# Altium schematic symbol library Pilot.SchLib: 72 symbols (part 1 of 3)
Pins are listed as number, name and electrical type; pins without a type are passive.

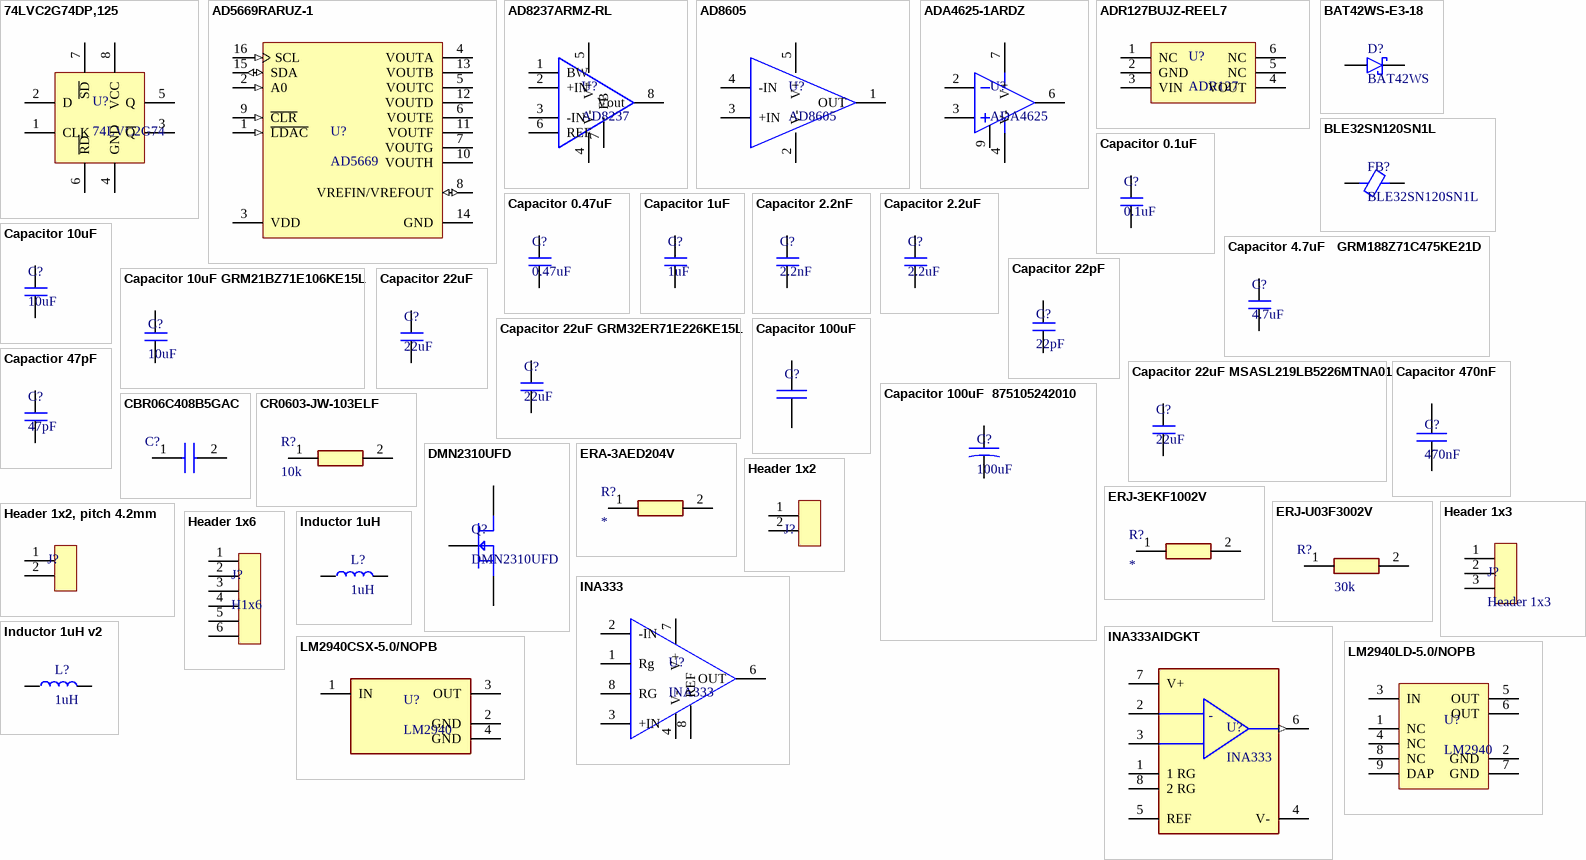
[diagram p0: symbols 74LVC2G74DP,125 to LM2940LD-5.0/NOPB]

## 74LVC2G74DP,125
designator U?, comment 74LVC2G74
Flip-Flop with Set And Reset Single D-Type Positive Edge Trigger 1.65V to 5.5V 8-Pin TSSOP; Manufacturer: Nexperia; Manufacturer Part Number: 74LVC2G74DP,125; Frequency: 200MHz; Output Current: 50mA; Supplier: Mouser; Supplier Part Number: 771-74LVC2G74DP-G; RoHS: Yes; Category: Latches and Flip Flops; Stock: 110790; Pins: 8NUMBER; Packaging: 10Packaging; ComponentLink1URL: https://datasheet.octopart.com/74LVC2G74DP%2C125-Nexperia-datasheet-17482457.pdf?src-supplier=Newark; ComponentLink1Description: https://datasheet.octopart.com/74LVC2G74DP%2C125-Nexperia-datasheet-17482457.pdf?src-supplier=Newark; ComponentLink2URL: https://datasheet.octopart.com/74LVC2G74DP%2C125-NXP-datasheet-8327349.pdf?src-supplier=Future+Electronics; ComponentLink2Description: https://datasheet.octopart.com/74LVC2G74DP%2C125-NXP-datasheet-8327349.pdf?src-supplier=Future+Electronics
footprint TSSOP8 (TSOP, 8-Leads, Body 3.00x3.00mm, Pitch 0.65mm, IPC Medium Density)
pins: 1 CLK, 2 D, 3 ~{Q}, 4 GND, 5 Q, 6 ~{RD}, 7 ~{SD}, 8 VCC

## AD5669RARUZ-1
designator U?, comment AD5669
DAC 8-CH Resistor-String 16-bit 16-Pin TSSOP Tube; Manufacturer: Analog Devices; Manufacturer Part Number: AD5669RARUZ-1; Supplier: Mouser; Supplier Part Number: 584-AD5669RARUZ-1; RoHS: Yes; Category: Digital to Analog Converters (DACs); Stock: 17; Pricing: 1=30.21, 10=22.04, 50=19.5, 100=19.5, 1000=19.5, 10000=19.5 (USD); ComponentLink1URL: https://datasheet.ciiva.com/1151/ad5629r-5669r-1151744.pdf?src-supplier=Newark; ComponentLink1Description: https://datasheet.ciiva.com/1151/ad5629r-5669r-1151744.pdf?src-supplier=Newark; ComponentLink2URL: https://datasheet.ciiva.com/1142/1789980-1142832.pdf?src-supplier=Element14; ComponentLink2Description: https://datasheet.ciiva.com/1142/1789980-1142832.pdf?src-supplier=Element14; ComponentLink3URL: https://datasheet.ciiva.com/1368/ad5629r-5669r-1368153.pdf?src-supplier=Digikey; ComponentLink3Description: https://datasheet.ciiva.com/1368/ad5629r-5669r-1368153.pdf?src-supplier=Digikey; ComponentLink4URL: https://datasheet.ciiva.com/8191/ad5629r-5669r-8191993.pdf?src-supplier=Avnet; ComponentLink4Description: https://datasheet.ciiva.com/8191/ad5629r-5669r-8191993.pdf?src-supplier=Avnet; Supplier 1: Mouser; Supplier Part Number 1: 584-AD5669RARUZ-1
footprint TSSOP16
pins: 1 ~{LDAC} (in) "Pulsing this pin low allows any or all DAC registers to be updated if the input registers have new data. This allows all DAC outputs to simultaneously update. Alternatively, this pin can be tied permanently low.", 2 A0 (in) "Address Input. Sets the least significant bit of the 7-bit slave address.", 3 VDD (power) "Power Supply Input. These parts can be operated from 2.7 V to 5.5 V. Decouple the supply with a 10 uF capacitor in parallel with a 0.1 uF capacitor to GND.", 4 VOUTA (hiz) "Analog Output Voltage from DAC A. The output amplifier has rail-to-rail operation.", 5 VOUTC (hiz) "Analog Output Voltage from DAC C. The output amplifier has rail-to-rail operation.", 6 VOUTE (hiz) "Analog Output Voltage from DAC E. The output amplifier has rail-to-rail operation.", 7 VOUTG (hiz) "Analog Output Voltage from DAC G. The output amplifier has rail-to-rail operation.", 8 VREFIN/VREFOUT (io) "The AD5669R have a common pin for reference input and reference output. When using the internal reference, this is the reference output pin. When using an external reference, this is the reference input pin. The default for (See Datasheet)", 9 ~{CLR} (in) "Asynchronous Clear Input. The C\L\R\ input is falling edge sensitive. When C\L\R\ is low, all L\D\A\C\ pulses are ignored. When C\L\R\ is activated, the input register and the DAC register are updated with the data contained (See Datasheet)", 10 VOUTH (hiz) "Analog Output Voltage from DAC H. The output amplifier has rail-to-rail operation.", 11 VOUTF (hiz) "Analog Output Voltage from DAC F. The output amplifier has rail-to-rail operation.", 12 VOUTD (hiz) "Analog Output Voltage from DAC D. The output amplifier has rail-to-rail operation.", 13 VOUTB (hiz) "Analog Output Voltage from DAC B. The output amplifier has rail-to-rail operation.", 14 GND (power) "Ground Reference Point for All Circuitry on the Parts", 15 SDA (io) "Serial Data Input. This is used in conjunction with the SCL line to clock data into or out of the 32-bit input shift register. It is a bidirectional, open-drain data line that should be pulled to the supply with an external (See Datasheet)", 16 SCL (in) "Serial Clock Line. This is used in conjunction with the SDA line to clock data into or out of the 32-bit input shift register."

## AD8237ARMZ-RL
designator U?, comment AD8237
Micropower, Zero Drift, True Rail-to-Rail Instrumentation Amplifier; Manufacturer: Analog Devices; Manufacturer Part Number: AD8237ARMZ-RL; Common Mode Rejection Ratio: 106dB; Bandwidth: 20kHz; Number of Channels: 1; Max Supply Voltage: 5.5V; Min Supply Voltage: 1.8V; Slew Rate: 0.15V/µs; -3db Bandwidth: 200kHz; Input Offset Voltage (Vos): 75uV; Operating Supply Current: 115uA; Input Bias Current: 250pA; Voltage Gain: 60dB; Output Current per Channel: 4mA; Supplier: Mouser; Supplier Part Number: 584-AD8237ARMZ-R; RoHS: Yes; Category: Amplifiers - Op Amps, Buffer, Instrumentation; Stock: 3637; Mounting Technology: Surface Mount; Case/Package: MSOP; Pins: 8; Contact Plating: Tin,Matte; Min Operating Temperature: -40°C; Max Operating Temperature: 125°C; Packaging: Tape and Reel; Package Quantity: 3000; Number of Circuits: 1; Number of Elements: 1; Supply Current: 115uA; Series: -; Lead Free: Contains Lead; RoHS Compliant: Yes; ComponentLink1URL: https://datasheet.ciiva.com/8582/ad8237-8582304.pdf?src-supplier=Avnet; ComponentLink1Description: https://datasheet.ciiva.com/8582/ad8237-8582304.pdf?src-supplier=Avnet; ComponentLink2URL: https://datasheet.ciiva.com/16374/ad8237-249057-16374304.pdf?src-supplier=Mouser; ComponentLink2Description: https://datasheet.ciiva.com/16374/ad8237-249057-16374304.pdf?src-supplier=Mouser
pins: 1 BW, 2 +IN, 3 -IN, 4 V-, 5 V+, 6 REF, 7 FB, 8 Vout

## AD8605
designator U?
pins: 1 OUT, 2 V-, 3 +IN, 4 -IN, 5 V+

## ADA4625-1ARDZ
designator U?, comment ADA4625
Op Amp Single Low Noise Amplifier R-R O/P ±18V/36V 8-Pin SOIC N EP Tube; Manufacturer: Analog Devices; Manufacturer Part Number: ADA4625-1ARDZ; Supplier: Mouser; Supplier Part Number: 584-ADA4625-1ARDZ; RoHS: Yes; Category: Amplifiers - Op Amps, Buffer, Instrumentation; Stock: 890; Pricing: 1=12.22, 10=8.4, 50=6.3, 100=5.98, 1000=5.98, 10000=5.98 (USD); ComponentLink1URL: https://datasheet.octopart.com/ADA4625-1ARDZ-Analog-Devices-datasheet-155467704.pdf?src-supplier=Element14; ComponentLink1Description: https://datasheet.octopart.com/ADA4625-1ARDZ-Analog-Devices-datasheet-155467704.pdf?src-supplier=Element14; ComponentLink2URL: https://www.analog.com/media/en/technical-documentation/data-sheets/ADA4625-1.pdf?src-supplier=Digikey; ComponentLink2Description: https://www.analog.com/media/en/technical-documentation/data-sheets/ADA4625-1.pdf?src-supplier=Digikey; ComponentLink3URL: https://datasheet.octopart.com/ADA4625-1ARDZ-Analog-Devices-datasheet-142523027.pdf?src-supplier=Arrow.cn; ComponentLink3Description: https://datasheet.octopart.com/ADA4625-1ARDZ-Analog-Devices-datasheet-142523027.pdf?src-supplier=Arrow.cn; Supplier 1: Mouser; Supplier Part Number 1: 584-ADA4625-1ARDZ
footprint SOIC8 (SOIC, 8-Leads, Body 4.90x3.93mm, Pitch 1.27mm, Thermal Pad 2.39x2.39mm, IPC Medium Density)
pins: 2 IN-, 3 IN+, 4 V- (power), 6 OUT, 7 V+ (power), 9

## ADR127BUJZ-REEL7
designator U?, comment ADR127
Precision, Micropower LD0 1.25 VOUT Voltage Reference in TSOT; Manufacturer: Analog Devices; Manufacturer Part Number: ADR127BUJZ-REEL7; Supplier: Mouser; Supplier Part Number: 584-ADR127BUJZ-R7; RoHS: Yes; Category: Voltage References; Stock: 1572; ComponentLink1URL: https://datasheet.ciiva.com/22666/705367-22666165.pdf?src-supplier=Element14; ComponentLink1Description: https://datasheet.ciiva.com/22666/705367-22666165.pdf?src-supplier=Element14; ComponentLink2URL: https://datasheet.ciiva.com/3236/adr121-125-127-3236921.pdf?src-supplier=Avnet; ComponentLink2Description: https://datasheet.ciiva.com/3236/adr121-125-127-3236921.pdf?src-supplier=Avnet; ComponentLink3URL: https://datasheet.ciiva.com/2005/adr121-125-127-2005786.pdf?src-supplier=Digikey; ComponentLink3Description: https://datasheet.ciiva.com/2005/adr121-125-127-2005786.pdf?src-supplier=Digikey; ComponentLink4URL: https://datasheet.ciiva.com/2005/adr121-125-127-2005788.pdf?src-supplier=Digikey; ComponentLink4Description: https://datasheet.ciiva.com/2005/adr121-125-127-2005788.pdf?src-supplier=Digikey; ComponentLink5URL: https://datasheet.ciiva.com/2005/adr121-125-127-2005787.pdf?src-supplier=Digikey; ComponentLink5Description: https://datasheet.ciiva.com/2005/adr121-125-127-2005787.pdf?src-supplier=Digikey; Supplier 1: Mouser; Supplier Part Number 1: 584-ADR127AUJZ-R7
footprint TSOT6 (TSOP, 6-Leads, Body 2.90x1.60mm, Pitch 0.95mm, IPC Medium Density)
pins: 1 NC, 2 GND, 3 VIN, 4 VOUT, 5 NC, 6 NC

## BAT42WS-E3-18
designator D?, comment BAT42WS
Rectifier Diode, Schottky, 1 Phase, 1 Element, 0.2A, 30V V(RRM), Silicon; Manufacturer: Vishay; Manufacturer Part Number: BAT42WS-E3-18; Max Power Dissipation: 150mW; Forward Voltage: 650mV; Forward Current: 200mA; Max Forward Surge Current (Ifsm): 4A; Max Reverse Current: 100uA; Reverse Recovery Time: 5ns; Supplier: Mouser; Supplier Part Number: 78-BAT42WS-E3-18; RoHS: Yes; Category: Rectifier Diodes; Stock: 24379; Pricing: 1=0.3, 10=0.193, 50=0.193, 100=0.119, 1000=0.073, 10000=0.045 (USD); Mounting Technology: Surface Mount; Case/Package: SOD-323-2; Weight: 0.000152oz; Contact Plating: Tin; Min Operating Temperature: -55°C; Max Operating Temperature: 125°C; Packaging: Tape and Reel; Package Quantity: 10000; Max Repetitive Reverse Voltage (Vrrm): 30V; Average Rectified Current: 200mA; Peak Non-Repetitive Surge Current: 4A; Max Reverse Voltage (DC): 30V; Series: Automotive, AEC-Q101; RoHS Compliant: Yes; ComponentLink1URL: http://www.mouser.com/ds/2/427/bat42wsv-57684.pdf?src-supplier=Mouser; ComponentLink1Description: http://www.mouser.com/ds/2/427/bat42wsv-57684.pdf?src-supplier=Mouser; ComponentLink2URL: http://www.vishay.com/docs/81813/bat42wsv.pdf?src-supplier=Avnet; ComponentLink2Description: http://www.vishay.com/docs/81813/bat42wsv.pdf?src-supplier=Avnet; ComponentLink3URL: http://www.vishay.com/docs/81813/bat42wsv.pdf?src-supplier=Digikey; ComponentLink3Description: http://www.vishay.com/docs/81813/bat42wsv.pdf?src-supplier=Digikey; ComponentLink4URL: http://www.vishay.com/docs/81813/bat42ws.pdf?src-supplier=Digikey; ComponentLink4Description: http://www.vishay.com/docs/81813/bat42ws.pdf?src-supplier=Digikey; Supplier 1: Mouser; Supplier Part Number 1: 78-BAT42WS-E3-18
footprint SOD-123 (Molded Diode, 2-Leads, Body 2.70x1.55mm, IPC Medium Density)
pins: 1, 2

## BLE32SN120SN1L
designator FB?
Ferrite Bead, 12 Ohm, 20A, 1210 Rohs Compliant: Yes; Manufacturer: Murata; Supplier: Mouser; Supplier Part Number: 81-BLE32SN120SN1L; Manufacturer Part Number: BLE32SN120SN1L; RoHS: No; Stock: 1671; Pricing: 1=1.02, 10=0.715, 50=0.546, 100=0.482, 1000=0.353, 10000=0.32 (USD); Supplier 1: Farnell; Supplier Part Number 1: 4076388
footprint FER1206
pins: 1, 2

## Capacitor 0.1uF
designator C?, comment 0.1uF
50V 100nF X5R 卤10% 0603 Multilayer Ceramic Capacitors MLCC - SMD/SMT ROHS; Manufacturer: TDK; Manufacturer Part Number: C1608X5R1H104K080AA; Material: 4241ConductorMaterial; Tolerance: 10%; Supplier: Mouser; Supplier Part Number: 810-C1608X5R1H104K; RoHS: Yes; Category: Ceramic Capacitors; Stock: 239770; Pricing: 1=0.1, 10=0.051, 50=0.051, 100=0.031, 1000=0.021, 10000=0.012 (USD); Mounting Technology: Surface Mount; Case/Package: 0603; Pins: 2NUMBER; Case Code (Metric): 1608; Case Code (Imperial): 0603; Weight: 7.1E-05oz; Dielectric Material: 4241ConductorMaterial; Min Operating Temperature: -55°C; Max Operating Temperature: 85°C; Value: 100nF; Voltage Rating: 50V; Package Quantity: 1; Packaging: Tape and Reel; Voltage Rating (DC): 50V; Dielectric: X5R; Termination: SMD/SMT; Series: C; Construction: Flat; Length: 1.6mm; Width: 0.031inch; Height: 0.8mm; Thickness: 0.035inch; Depth: 0.8mm; Radiation Hardening: No; Reach SVHC Compliant: No; RoHS Compliant: Yes; Lead Free: 5697LeadFree; ComponentLink1URL: https://datasheet.ciiva.com/24219/mlcc-commercial-general-en-24219452.pdf?src-supplier=Mouser; ComponentLink1Description: https://datasheet.ciiva.com/24219/mlcc-commercial-general-en-24219452.pdf?src-supplier=Mouser; ComponentLink2URL: https://datasheet.ciiva.com/7975/1796654-7975081.pdf?src-supplier=Element14; ComponentLink2Description: https://datasheet.ciiva.com/7975/1796654-7975081.pdf?src-supplier=Element14; ComponentLink3URL: https://datasheet.ciiva.com/22694/1796654-22694121.pdf?src-supplier=Element14; ComponentLink3Description: https://datasheet.ciiva.com/22694/1796654-22694121.pdf?src-supplier=Element14; ComponentLink4URL: https://datasheet.ciiva.com/28577/1735394-28577228.pdf?src-supplier=Element14; ComponentLink4Description: https://datasheet.ciiva.com/28577/1735394-28577228.pdf?src-supplier=Element14; ComponentLink5URL: https://datasheet.ciiva.com/6275/tdkmlcccaprange-6275223.pdf?src-supplier=Digikey; ComponentLink5Description: https://datasheet.ciiva.com/6275/tdkmlcccaprange-6275223.pdf?src-supplier=Digikey; Supplier 1: Mouser; Supplier Part Number 1: 810-C1608X5R1H104K
footprint CAP0603 (Chip Capacitor, 2-Leads, Body 1.60x0.80mm, IPC Medium Density)
pins: 1, 2

## Capacitor 0.47uF
designator C?, comment 0.47uF
Cap Ceramic 0.47uF 25V X7R 10% Pad SMD 0603 Soft Termination 125C T/RC1608X7R1E474K080AE; Manufacturer: TDK; Supplier: Mouser; Supplier Part Number: 810-C1608X7R1E474KAE; Manufacturer Part Number: C1608X7R1E474K080AE; RoHS: Yes; Category: Ceramic Capacitors; Stock: 4650; Pricing: 1=0.19, 10=0.078, 50=0.078, 100=0.06, 1000=0.047, 10000=0.032 (USD); ComponentLink1URL: https://product.tdk.com/info/en/catalog/datasheets/mlcc_commercial_soft_en.pdf?ref_disty=digikey&src-supplier=Digikey; ComponentLink1Description: https://product.tdk.com/info/en/catalog/datasheets/mlcc_commercial_soft_en.pdf?ref_disty=digikey&src-supplier=Digikey; ComponentLink2URL: https://product.tdk.com/info/en/catalog/spec/mlccspec_commercial_soft_en.pdf?src-supplier=Digikey; ComponentLink2Description: https://product.tdk.com/info/en/catalog/spec/mlccspec_commercial_soft_en.pdf?src-supplier=Digikey; ComponentLink3URL: https://product.tdk.com/info/en/catalog/datasheets/mlcc_commercial_soft_en.pdf?src-supplier=Digikey; ComponentLink3Description: https://product.tdk.com/info/en/catalog/datasheets/mlcc_commercial_soft_en.pdf?src-supplier=Digikey; Supplier 1: Mouser; Supplier Part Number 1: 810-C1608X7R1E474KAE
footprint CAP0603 (Chip Capacitor, 2-Leads, Body 1.60x0.80mm, IPC Medium Density)
pins: 1, 2

## Capacitor 1uF
designator C?, comment 1uF
C Series 0402 0.1 uF 50 V ±10 % Tolerance X7R SMT Multilayer Ceramic Capacitor; Manufacturer: TDK; Manufacturer Part Number: C1005X7R1H104K050BB; Dielectric Material: 4241ConductorMaterial; Value: 100nF; Voltage Rating: 50V; Tolerance: 10%; Supplier: Mouser; Supplier Part Number: 810-C1005X7R1H104K; RoHS: Yes; Category: Ceramic Capacitors; Stock: 2219613; Pricing: 1=0.1, 10=0.028, 50=0.028, 100=0.024, 1000=0.014, 10000=0.011 (USD); Mounting Technology: Surface Mount; Case/Package: 0402; Pins: 2NUMBER; Case Code (Imperial): 0402; Case Code (Metric): 1005; Material: 4241ConductorMaterial; Min Operating Temperature: -55°C; Max Operating Temperature: 125°C; Package Quantity: 1; Packaging: Tape and Reel; Dielectric: X7R; Voltage: 50V; Series: C; Construction: Flat; Length: 1mm; Width: 0.02inch; Height: 0.5mm; Thickness: 0.022inch; Depth: 0.5mm; Radiation Hardening: No; RoHS Compliant: Yes; Reach SVHC Compliant: Unknown; Lead Free: 5697LeadFree; ComponentLink1URL: https://datasheet.ciiva.com/26285/2983c1005x7r1h104k050bb-26285417.pdf?src-supplier=Onlinecomponents.com; ComponentLink1Description: https://datasheet.ciiva.com/26285/2983c1005x7r1h104k050bb-26285417.pdf?src-supplier=Onlinecomponents.com; ComponentLink2URL: https://datasheet.ciiva.com/16427/c1005x7r1h104k050bb-16427685.pdf?src-supplier=Future+Electronics; ComponentLink2Description: https://datasheet.ciiva.com/16427/c1005x7r1h104k050bb-16427685.pdf?src-supplier=Future+Electronics; ComponentLink3URL: https://datasheet.ciiva.com/22725/1913358-22725482.pdf?src-supplier=Element14; ComponentLink3Description: https://datasheet.ciiva.com/22725/1913358-22725482.pdf?src-supplier=Element14; ComponentLink4URL: https://datasheet.ciiva.com/22725/1913358-22725480.pdf?src-supplier=Element14; ComponentLink4Description: https://datasheet.ciiva.com/22725/1913358-22725480.pdf?src-supplier=Element14; ComponentLink5URL: https://datasheet.ciiva.com/6292/tdkmlcccaprange-6292410.pdf?src-supplier=Digikey; ComponentLink5Description: https://datasheet.ciiva.com/6292/tdkmlcccaprange-6292410.pdf?src-supplier=Digikey; ComponentLink6URL: https://datasheet.ciiva.com/23802/1796654-23802749.pdf?src-supplier=Newark; ComponentLink6Description: https://datasheet.ciiva.com/23802/1796654-23802749.pdf?src-supplier=Newark; ComponentLink7URL: https://datasheet.ciiva.com/6292/tdkmlcccaprange-6292415.pdf?src-supplier=Digikey; ComponentLink7Description: https://datasheet.ciiva.com/6292/tdkmlcccaprange-6292415.pdf?src-supplier=Digikey; ComponentLink8URL: https://datasheet.ciiva.com/48671/e412-c-48671294.pdf?src-supplier=Avnet; ComponentLink8Description: https://datasheet.ciiva.com/48671/e412-c-48671294.pdf?src-supplier=Avnet; Supplier 1: Mouser; Supplier Part Number 1: 810-C1005X7R1H104K
footprint CAP0402 (Chip Capacitor, 2-Leads, Body 1.00x0.50mm, IPC Medium Density)
pins: 1, 2

## Capacitor 2.2nF
designator C?, comment 2.2nF
Multilayer Ceramic Capacitor, 2200 pF, 25 V, ± 10%, X7R, 0402 [1005 Metric]; Manufacturer: Murata; Manufacturer Part Number: GRM155R71E222KA01D; Material: 4241ConductorMaterial; Voltage Rating: 25V; Supplier: Mouser; Supplier Part Number: 81-GRM155R71E222KA1D; RoHS: Yes; Category: Ceramic Capacitors; Stock: 158457; Pricing: 1=0.1, 10=0.013, 50=0.013, 100=0.009, 1000=0.006, 10000=0.004 (USD); Mounting Technology: Surface Mount; Case/Package: 0402; Pins: 2NUMBER; Case Code (Metric): 1005; Case Code (Imperial): 0402; Min Operating Temperature: -55°C; Max Operating Temperature: 125°C; Packaging: Tape and Reel; Value: 2.2nF; Tolerance: 10%; Package Quantity: 1; Voltage Rating (DC): 25V; Dielectric: X7R; Termination: SMD/SMT; Voltage: 25V; Series: GRM; Construction: Flat; Length: 1mm; Width: 0.02inch; Height: 0.5mm; Thickness: 0.022inch; Depth: 0.5mm; Radiation Hardening: No; Reach SVHC Compliant: No; Lead Free: Lead Free; RoHS Compliant: Yes; ComponentLink1URL: https://datasheet.ciiva.com/18184/getdatasheetpartid-476555-18184699.pdf?src-supplier=Verical; ComponentLink1Description: https://datasheet.ciiva.com/18184/getdatasheetpartid-476555-18184699.pdf?src-supplier=Verical; ComponentLink2URL: https://datasheet.ciiva.com/129/partnumbering-e-01-129988.pdf?src-supplier=Digikey; ComponentLink2Description: https://datasheet.ciiva.com/129/partnumbering-e-01-129988.pdf?src-supplier=Digikey; ComponentLink3URL: https://datasheet.ciiva.com/129/partnumbering-e-01-129987.pdf?src-supplier=Digikey; ComponentLink3Description: https://datasheet.ciiva.com/129/partnumbering-e-01-129987.pdf?src-supplier=Digikey; ComponentLink4URL: https://datasheet.ciiva.com/129/partnumbering-e-01-129989.pdf?src-supplier=Digikey; ComponentLink4Description: https://datasheet.ciiva.com/129/partnumbering-e-01-129989.pdf?src-supplier=Digikey; ComponentLink5URL: https://datasheet.ciiva.com/16396/product-16396812.pdf?src-supplier=Future+Electronics; ComponentLink5Description: https://datasheet.ciiva.com/16396/product-16396812.pdf?src-supplier=Future+Electronics; Supplier 1: Mouser; Supplier Part Number 1: 81-GRM155R71E222KA1D
footprint CAP0402 (Chip Capacitor, 2-Leads, Body 1.00x0.50mm, IPC Medium Density)
pins: 1, 2

## Capacitor 2.2uF
designator C?, comment 2.2uF
Multilayer Ceramic Capacitors (High dielectric type), 16V, 2.2 uF, ± 20 %, 0603, X5R, RoHS; Manufacturer: Taiyo Yuden; Manufacturer Part Number: EMK107BJ225MA-T; Supplier 1: Mouser; Supplier Part Number 1: 963-EMK107BJ225MA-T; Supplier: Mouser; Supplier Part Number: 963-EMK107BJ225MA-T; RoHS: Yes; Category: Ceramic Capacitors; Stock: 26652; Pricing: 1=0.1, 10=0.039, 50=0.039, 100=0.033, 1000=0.022, 10000=0.014 (USD); ComponentLink1URL: http://ds.yuden.co.jp/TYCOMPAS/ut/detail.do?productNo=EMK107BJ225MA-T&fileName=EMK107BJ225MA-T_SS&mode=specSheetDownload&src-supplier=Digikey; ComponentLink1Description: http://ds.yuden.co.jp/TYCOMPAS/ut/detail.do?productNo=EMK107BJ225MA-T&fileName=EMK107BJ225MA-T_SS&mode=specSheetDownload&src-supplier=Digikey; ComponentLink2URL: http://documents.rs-components.com/techlib://itc_doclist_GB.htm?stockno=7583057&src-supplier=Rs; ComponentLink2Description: http://documents.rs-components.com/techlib://itc_doclist_GB.htm?stockno=7583057&src-supplier=Rs; ComponentLink3URL: https://ds.yuden.co.jp/TYCOMPAS/ut/detail?pn=EMK107BJ225MA-T &amp;u=M&src-supplier=Digikey; ComponentLink3Description: https://ds.yuden.co.jp/TYCOMPAS/ut/detail?pn=EMK107BJ225MA-T &amp;u=M&src-supplier=Digikey; ComponentLink4URL: https://datasheet.octopart.com/EMK107BJ225MA-T-Taiyo-Yuden-datasheet-140424376.pdf?src-supplier=Master+Electronics; ComponentLink4Description: https://datasheet.octopart.com/EMK107BJ225MA-T-Taiyo-Yuden-datasheet-140424376.pdf?src-supplier=Master+Electronics
footprint CAP0603 (Chip Capacitor, 2-Leads, Body 1.60x0.80mm, IPC Medium Density)
pins: 1, 2

## Capacitor 4.7uF   GRM188Z71C475KE21D
designator C?, comment 4.7uF
16V 4.7uF X7R ±10% 0603 Multilayer Ceramic Capacitors MLCC - SMD/SMT ROHS; Manufacturer: Murata; Manufacturer Part Number: GRM188Z71C475KE21D; Material: 4241ConductorMaterial; Supplier: Mouser; Supplier Part Number: 81-GRM188Z71C475KE1D; RoHS: Yes; Category: Ceramic Capacitors; Stock: 154481; Pricing: 1=0.24, 10=0.099, 50=0.099, 100=0.075, 1000=0.061, 10000=0.044 (USD); Case/Package: 345Case; Min Operating Temperature: -55°C; Max Operating Temperature: 125°C; Value: 4.7uF; Tolerance: 10%; Voltage Rating: 16V; Length: 1.6mm; Width: 800um; Height: 1mm; Thickness: 800um; RoHS Compliant: Yes; Supplier 1: Mouser; Supplier Part Number 1: 81-GRM188Z71C475KE1D
footprint CAP0603 (Chip Capacitor, 2-Leads, Body 1.60x0.80mm, IPC Medium Density)
pins: 1, 2

## Capacitor 10uF
designator C?, comment 10uF
SMD Multilayer Ceramic Capacitor, 10 ï¿½F, 25 V, 0805 [2012 Metric], ï¿½ 10%, X7S; Manufacturer: TDK; Manufacturer Part Number: C2012X7S1E106K125AC; Material: 4241ConductorMaterial; Dielectric: 1542DielectricType; Voltage Rating: 25V; Supplier: Mouser; Supplier Part Number: 810-C2012X7S1EK125AC; RoHS: Yes; Category: Ceramic Capacitors; Stock: 53732; Pricing: 1=0.54, 10=0.331, 50=0.331, 100=0.224, 1000=0.169, 10000=0.136 (USD); Case/Package: 339Case; Case Code (Metric): 3663CaseCodeMetric; Min Operating Temperature: -55°C; Max Operating Temperature: 125°C; Value: 10uF; Tolerance: 10%; Voltage Rating (DC): 25V; Length: 2mm; Width: 1.25mm; Height: 1.5mm; Thickness: 1.25mm; Lead Free: 5697LeadFree; ComponentLink1URL: https://product.tdk.com/info/en/catalog/datasheets/mlcc_commercial_general_en.pdf?ref_disty=digikey&src-supplier=Digikey; ComponentLink1Description: https://product.tdk.com/info/en/catalog/datasheets/mlcc_commercial_general_en.pdf?ref_disty=digikey&src-supplier=Digikey; ComponentLink2URL: https://datasheet.octopart.com/C2012X7S1E106K125AC-TDK-datasheet-152726810.pdf?src-supplier=Future+Electronics; ComponentLink2Description: https://datasheet.octopart.com/C2012X7S1E106K125AC-TDK-datasheet-152726810.pdf?src-supplier=Future+Electronics; Supplier 1: Mouser; Supplier Part Number 1: 810-C2012X7S1EK125AC
footprint CAP0805 (Chip Capacitor, 2-Leads, Body 2.00x1.25mm, IPC Medium Density)
pins: 1, 2

## Capacitor 10uF GRM21BZ71E106KE15L
designator C?, comment 10uF
25V 10uF X7R ±10% 0805 Multilayer Ceramic Capacitors MLCC - SMD/SMT ROHS; Manufacturer: Murata; Manufacturer Part Number: GRM21BZ71E106KE15L; Material: 4241ConductorMaterial; Supplier: Mouser; Supplier Part Number: 81-GRM21BZ71E106KE5L; RoHS: Yes; Category: Ceramic Capacitors; Stock: 227168; Case/Package: 339Case; Min Operating Temperature: -55°C; Max Operating Temperature: 125°C; Value: 10uF; Tolerance: 10%; Voltage Rating: 25V; Length: 2mm; Width: 1.25mm; Height: 1.45mm; Thickness: 1.25mm; RoHS Compliant: Yes; ComponentLink1URL: https://datasheet.octopart.com/GRM21BZ71E106KE15L-Murata-datasheet-165579666.pdf?src-supplier=TME; ComponentLink1Description: https://datasheet.octopart.com/GRM21BZ71E106KE15L-Murata-datasheet-165579666.pdf?src-supplier=TME; Supplier 1: Mouser; Supplier Part Number 1: 81-GRM21BZ71E106KE5L
footprint CAP0805 (Chip Capacitor, 2-Leads, Body 2.00x1.25mm, IPC Medium Density)
pins: 1, 2

## Capacitor 22pF
designator C?, comment 22pF
Manufacturer: KEMET; Manufacturer Part Number: C0805C220J5HACTU; Supplier: Mouser; Supplier Part Number: 80-C0805C220J5HACTU; RoHS: Yes; Category: Ceramic Capacitors; Stock: 12053; Pricing: 1=0.1, 10=0.034, 50=0.034, 100=0.028, 1000=0.019, 10000=0.011 (USD); RoHS Compliant: Yes; Supplier 1: Mouser; Supplier Part Number 1: 80-C0805C220J5HACTU
footprint CAP0805 (Chip Capacitor, 2-Leads, Body 2.00x1.25mm, IPC Medium Density)
pins: 1, 2

## Capacitor 22uF
designator C?, comment 22uF
C Series 0805 22 uF 10 V ±20 % Tolerance X7S SMT Multilayer Ceramic Capacitor; Manufacturer: TDK; Manufacturer Part Number: C2012X7S1A226M125AC; Material: 4241ConductorMaterial; Tolerance: 20%; Voltage Rating: 10V; Supplier: Mouser; Supplier Part Number: 810-C2012X7S1A226MAC; RoHS: Yes; Category: Ceramic Capacitors; Stock: 99022; Pricing: 1=0.53, 10=0.349, 50=0.349, 100=0.238, 1000=0.18, 10000=0.141 (USD); Mounting Technology: Surface Mount; Case/Package: 0805; Case Code (Metric): 2012; Case Code (Imperial): 0805; Weight: 0.000194oz; Dielectric Material: Ceramic; Min Operating Temperature: -55°C; Max Operating Temperature: 125°C; Package Quantity: 2000; Packaging: Tape and Reel; Value: 22uF; Dielectric: X7S; Termination: SMD/SMT; Voltage Rating (DC): 10V; Series: C; Length: 0.079inch; Width: 0.049inch; Height: 1.25mm; Thickness: 0.057inch; Reach SVHC Compliant: No; Lead Free: Lead Free; RoHS Compliant: Yes; ComponentLink1URL: https://datasheet.ciiva.com/14893/tdkmlcccaprange-14893288.pdf?src-supplier=Digikey; ComponentLink1Description: https://datasheet.ciiva.com/14893/tdkmlcccaprange-14893288.pdf?src-supplier=Digikey; ComponentLink2URL: https://datasheet.ciiva.com/14893/tdkmlcccaprange-14893287.pdf?src-supplier=Digikey; ComponentLink2Description: https://datasheet.ciiva.com/14893/tdkmlcccaprange-14893287.pdf?src-supplier=Digikey; ComponentLink3URL: https://datasheet.ciiva.com/14893/tdkmlcccaprange-14893289.pdf?src-supplier=Digikey; ComponentLink3Description: https://datasheet.ciiva.com/14893/tdkmlcccaprange-14893289.pdf?src-supplier=Digikey; Supplier 1: Mouser; Supplier Part Number 1: 810-C2012X7S1A226MAC
footprint CAP0805 (Chip Capacitor, 2-Leads, Body 2.00x1.25mm, IPC Medium Density)
pins: 1, 2

## Capacitor 22uF GRM32ER71E226KE15L
designator C?, comment 22uF
25V 22uF X7R ±10% 1210 Multilayer Ceramic Capacitors MLCC - SMD/SMT ROHS; Manufacturer: Murata; Manufacturer Part Number: GRM32ER71E226KE15L; Color: 46Colour; Current Rating: 3A; Gender: 29Gender; Supplier: Mouser; Supplier Part Number: 81-GRM32ER71E226KE5L; RoHS: Yes; Category: Ceramic Capacitors; Stock: 176506; Contact Material: 150ConductorMaterial; Contact Plating: 157ConductorMaterial; Lead Pitch: 2.54mm; Lead Free: 5697LeadFree; ComponentLink1URL: https://datasheet.ciiva.com/16497/product-16497009.pdf?src-supplier=Future+Electronics; ComponentLink1Description: https://datasheet.ciiva.com/16497/product-16497009.pdf?src-supplier=Future+Electronics; ComponentLink2URL: https://datasheet.ciiva.com/6072/1697714-6072768.pdf?src-supplier=Farnell; ComponentLink2Description: https://datasheet.ciiva.com/6072/1697714-6072768.pdf?src-supplier=Farnell; ComponentLink3URL: https://datasheet.ciiva.com/3776/2741grm32er71e226ke1523-3776996.pdf?src-supplier=Arrow+Electronics; ComponentLink3Description: https://datasheet.ciiva.com/3776/2741grm32er71e226ke1523-3776996.pdf?src-supplier=Arrow+Electronics; ComponentLink4URL: https://datasheet.ciiva.com/11789/0900766b80ef921d-11789129.pdf?src-supplier=Rs; ComponentLink4Description: https://datasheet.ciiva.com/11789/0900766b80ef921d-11789129.pdf?src-supplier=Rs; ComponentLink5URL: https://datasheet.ciiva.com/29201/451826-da-01-de-vs-kondens-grm32-er71e-226ke15l-29201795.pdf?src-supplier=Conrad; ComponentLink5Description: https://datasheet.ciiva.com/29201/451826-da-01-de-vs-kondens-grm32-er71e-226ke15l-29201795.pdf?src-supplier=Conrad; ComponentLink6URL: https://datasheet.ciiva.com/22703/1697714-22703397.pdf?src-supplier=Element14; ComponentLink6Description: https://datasheet.ciiva.com/22703/1697714-22703397.pdf?src-supplier=Element14; ComponentLink7URL: https://datasheet.ciiva.com/175/partnumbering-e-01-175746.pdf?src-supplier=Digikey; ComponentLink7Description: https://datasheet.ciiva.com/175/partnumbering-e-01-175746.pdf?src-supplier=Digikey; ComponentLink8URL: https://datasheet.ciiva.com/175/partnumbering-e-01-175747.pdf?src-supplier=Digikey; ComponentLink8Description: https://datasheet.ciiva.com/175/partnumbering-e-01-175747.pdf?src-supplier=Digikey; ComponentLink9URL: https://datasheet.ciiva.com/175/partnumbering-e-01-175748.pdf?src-supplier=Digikey; ComponentLink9Description: https://datasheet.ciiva.com/175/partnumbering-e-01-175748.pdf?src-supplier=Digikey; Supplier 1: Mouser; Supplier Part Number 1: 81-GRM32ER71E226KE5L
footprint CAP1206 (Chip Capacitor, 2-Leads, Body 3.20x2.50mm, IPC Medium Density)
pins: 1, 2

## Capacitor 22uF MSASL219LB5226MTNA01
designator C?, comment 22uF
Ceramic Capacitor, Multilayer, Ceramic, 10V, 20% +Tol, 20% -Tol, X5R, 15% TC, 22uF, Surface Mount, 0805; Manufacturer: Taiyo Yuden; Manufacturer Part Number: MSASL219LB5226MTNA01; Supplier: Mouser; Supplier Part Number: 963-MSASL219LB5226MT; RoHS: Yes; Category: Ceramic Capacitors; Stock: 265; Pricing: 1=0.29, 10=0.19, 50=0.19, 100=0.109, 1000=0.072, 10000=0.048 (USD); RoHS Compliant: Yes; Supplier 1: Mouser; Supplier Part Number 1: 963-MSASL219LB5226MT
footprint CAP0805 (Chip Capacitor, 2-Leads, Body 2.00x1.25mm, IPC Medium Density)
pins: 1, 2

## Capacitor 100uF
designator C?, comment 100uF  (value not drawn)
100uF ±20% 1206 Multilayer Ceramic Capacitors MLCC - SMD/SMT ROHS. GRM31CR61A107MEA8L; Manufacturer: Murata; Material: 4241ConductorMaterial; Dielectric: 1537DielectricType; Voltage Rating: 10V; Supplier: Mouser; Supplier Part Number: 81-GRM31CR61A107MA8L; Manufacturer Part Number: GRM31CR61A107MEA8L; RoHS: Yes; Category: Ceramic Capacitors; Stock: 57074; Pricing: 1=0.49, 10=0.224, 50=0.224, 100=0.175, 1000=0.155, 10000=0.121 (USD); Case/Package: 340Case; Min Operating Temperature: -55°C; Max Operating Temperature: 85°C; Value: 100uF; Tolerance: 20%; Voltage Rating (DC): 10V; Length: 3.2mm; Width: 1.6mm; Height: 1.9mm; Supplier 1: Mouser; Supplier Part Number 1: 81-GRM31CR61A107MA8L
footprint CAP1206 (Chip Capacitor, 2-Leads, Body 3.20x2.50mm, IPC Medium Density)
pins: 1, 2

## Capacitor 100uF  875105242010
designator C?, comment 100uF
WCAP-PSLP Radial Can - SMD Aluminum Polymer Capacitor 0.197Dia 5.00mm ±20% 100muF 10V; Manufacturer: Wurth Elektronik; Manufacturer Part Number: 875105242010; Value: 100µF; Dissipation Factor: 8%; ESR (Equivalent Series Resistance): 30mΩ; Leakage Current: 300µA; Life (Hours): 2000hours; Pitch: 5.3mm; Polarity: Polar; Ripple Current: 1.97A; Supplier: Mouser; Supplier Part Number: 710-875105242010; RoHS: Compliant; Category: Polymer Capacitors; Stock: 8349; Pricing: 1=0.6, 10=0.595, 50=0.508, 100=0.441, 1000=0.328, 10000=0.328 (USD); Case/Package: Radial; Diameter: 5mm; Height: 5.5mm; Height - Seated (Max): 5.5118mm; Length: 5.5mm; Material: Polymer; Max Operating Temperature: 105°C; Min Operating Temperature: -55°C; Mounting Technology: Surface Mount; Packaging: Tape & Reel (TR); REACH SVHC: Unknown; Tolerance: 20%; Voltage Rating: 10V; Voltage Rating (DC): 10V; ComponentLink1URL: https://datasheet.octopart.com:443/875105242010-W%C3%BCrth-Elektronik-datasheet-37144755.pdf?src-supplier=Wurth+Elektronik; ComponentLink1Description: https://datasheet.octopart.com:443/875105242010-W%C3%BCrth-Elektronik-datasheet-37144755.pdf?src-supplier=Wurth+Elektronik; ComponentLink2URL: https://datasheet.octopart.com:443/875105242010-Wurth-Elektronik-datasheet-181970813.pdf?src-supplier=Future+Electronics; ComponentLink2Description: https://datasheet.octopart.com:443/875105242010-Wurth-Elektronik-datasheet-181970813.pdf?src-supplier=Future+Electronics
footprint Radial 5x5mm
pins: 1, 2

## Capacitor 470nF
designator C?, comment 470nF
Cap , Mlcc , 0402, 16V , X5R, 0.47UF 20% , T&r; Manufacturer: Taiyo Yuden; Manufacturer Part Number: MCASE105AB5474MFNA01; Supplier: Mouser; Supplier Part Number: 963-MCASE105AB5474MF; RoHS: Yes; Category: Ceramic Capacitors; Stock: 21398; Pricing: 1=0.1, 10=0.059, 50=0.059, 100=0.036, 1000=0.026, 10000=0.018 (USD); RoHS Compliant: 5897YesNo
footprint CAP0402 (Chip Capacitor, 2-Leads, Body 1.00x0.50mm, IPC Medium Density)
pins: 1, 2

## Capactior 47pF
designator C?, comment 47pF
Cap Ceramic 47pF 50V C0G 5% Pad SMD 0805 125C T/R; Manufacturer: Wurth Electronics; Manufacturer Part Number: 885012007055; Insulation Resistance: 10GR; Voltage Rating (DC): 100V; Supplier: Mouser; RoHS: No; Category: Ceramic Capacitors; Stock: 8470; Length: 2mm; Width: 1.25mm; Height: 600um; ComponentLink1URL: http://www.farnell.com/datasheets/2546659.pdf?src-supplier=Farnell; ComponentLink1Description: http://www.farnell.com/datasheets/2546659.pdf?src-supplier=Farnell; ComponentLink2URL: https://katalog.we-online.de/pbs/datasheet/885012007096.pdf?src-supplier=Digikey; ComponentLink2Description: https://katalog.we-online.de/pbs/datasheet/885012007096.pdf?src-supplier=Digikey; Pricing: 1=0.11, 10=0.058, 50=0.04, 100=0.034, 1000=0.023, 10000=0.023 (USD); Value: 47pF; Case/Package: 0805; Case Code (Imperial): 0805; Case Code (Metric): 2012; Max Operating Temperature: 125°C; Min Operating Temperature: -55°C; Mounting Technology: Surface Mount; Packaging: Cut Tape; Thickness: 711.2µm; Tolerance: 5%; Voltage Rating: 50V; ComponentLink3URL: https://datasheet.octopart.com:443/885012007055-Wurth-Elektronik-datasheet-159617422.pdf?src-supplier=Wurth+Elektronik; ComponentLink3Description: https://datasheet.octopart.com:443/885012007055-Wurth-Elektronik-datasheet-159617422.pdf?src-supplier=Wurth+Elektronik; ComponentLink4URL: https://datasheet.octopart.com:443/885012007055-W%C3%BCrth-Elektronik-datasheet-73179849.pdf?src-supplier=Wurth+Elektronik; ComponentLink4Description: https://datasheet.octopart.com:443/885012007055-W%C3%BCrth-Elektronik-datasheet-73179849.pdf?src-supplier=Wurth+Elektronik; Supplier 1: Mouser; Supplier Part Number 1: 710-885012007055
footprint CAP0805 (Chip Capacitor, 2-Leads, Body 2.00x1.25mm, IPC Medium Density)
pins: 1, 2

## CBR06C408B5GAC
designator C?  (value not drawn)
Capacitor; Manufacturer_Name: Yageo Group; Manufacturer_Part_Number: CBR06C408B5GAC; Value: 0.4pF; Datasheet Link: https://www.yageogroup.com/content/datasheet/asset/file/KEM_C1030_CBR_SMD; Height: 0.87mm
footprint CAPC1608X87N
pins: 1, 2

## CR0603-JW-103ELF
designator R?, comment 10k
Resistor; Manufacturer_Name: Bourns; Manufacturer_Part_Number: CR0603-JW-103ELF; Datasheet Link: https://www.bourns.com/pdfs/chpreztr.pdf; Height: 0.55mm; Mouser Part Number: 652-CR0603-JW-103ELF; Mouser Price/Stock: https://www.mouser.co.uk/ProductDetail/Bourns/CR0603-JW-103ELF?qs=tprK%2FdUq6q6vORSl%252Bpo4rg%3D%3D; Arrow Part Number: CR0603-JW-103ELF; Arrow Price/Stock: https://www.arrow.com/en/products/cr0603-jw-103elf/bourns?utm_currency=USD&region=nac
footprint RESC1608X55N
pins: 1, 2

## DMN2310UFD
designator Q?
footprint DFN1212-3 (DFN, 3-Leads, Body 1.20x1.20mm, Pitch 0.60mm, IPC High Density)
pins: D, G, S

## ERA-3AED204V
designator R?
Resistor; Manufacturer_Name: Panasonic; Manufacturer_Part_Number: ERA-3AED204V; Datasheet Link: https://industrial.panasonic.com/cdbs/www-data/pdf/RDM0000/AOA0000C307.pdf; Height: 0.55mm; Mouser Part Number: 667-ERA-3AED204V; Mouser Price/Stock: https://www.mouser.co.uk/ProductDetail/Panasonic/ERA-3AED204V?qs=yocZuyCaXdP38wCRmeWMzA%3D%3D; Arrow Part Number: ERA-3AED204V; Arrow Price/Stock: https://www.arrow.com/en/products/era-3aed204v/panasonic?region=nac
footprint ERA3AEB101V
pins: 1, 2

## ERJ-3EKF1002V
designator R?
Resistor; Manufacturer_Name: Panasonic; Manufacturer_Part_Number: ERJ-3EKF1002V; Datasheet Link: http://industrial.panasonic.com/cdbs/www-data/pdf/RDA0000/AOA0000C86.pdf; Height: 0.55mm; Mouser Part Number: 667-ERJ-3EKF1002V; Mouser Price/Stock: https://www.mouser.co.uk/ProductDetail/Panasonic/ERJ-3EKF1002V?qs=H7k1u0Mp9JSrGPQ5%2F5COuw%3D%3D; Arrow Part Number: ERJ-3EKF1002V; Arrow Price/Stock: https://www.arrow.com/en/products/erj-3ekf1002v/panasonic?utm_currency=USD&region=nac
footprint RESC1608X55N
pins: 1, 2

## ERJ-U03F3002V
designator R?  value 30k  (hidden comment: *)
Resistor; Manufacturer_Name: Panasonic; Manufacturer_Part_Number: ERJ-U03F3002V; Datasheet Link: http://industrial.panasonic.com/cdbs/www-data/pdf/RDP0000/AOA0000C334.pdf; Height: 0.55mm
footprint ERJS03J155V (Footprint not found)
pins: 1, 2

## Header 1x2
designator J?, comment Header1x2  (value not drawn)
Conn Wire to Board HDR 2 POS 2.54mm Solder ST Thru-Hole Bulk; Manufacturer: Molex; Current Rating: 4A; Voltage Rating: 250V; Contact Resistance: 10mR; Number of Positions: 2; Supplier: Mouser; Supplier Part Number: 538-22-23-2022; Manufacturer Part Number: 22-23-2022; RoHS: Yes; Category: Headers and Wire Housings; Stock: 14930; Pricing: 1=0.16, 10=0.144, 50=0.14, 100=0.136, 1000=0.134, 10000=0.134 (USD); Mounting Technology: Through Hole; Case/Package: 100; Contact Plating: Tin; Contact Material: Brass; Housing Material: Polyamide; Min Operating Temperature: 0°C; Max Operating Temperature: 75°C; Package Quantity: 3000; Number of Rows: 1; Termination: Through Hole; Number of Contacts: 2; Orientation: Straight; Series: 6373; Pitch: 2.54mm; RoHS Compliant: Yes; ComponentLink1URL: http://datasheet.octopart.com/22-23-2022-Molex-datasheet-154765248.pdf?src-supplier=Avnet; ComponentLink1Description: http://datasheet.octopart.com/22-23-2022-Molex-datasheet-154765248.pdf?src-supplier=Avnet; ComponentLink2URL: http://datasheet.octopart.com/22-23-2022-Molex-datasheet-154765248.pdf?src-supplier=Digikey; ComponentLink2Description: http://datasheet.octopart.com/22-23-2022-Molex-datasheet-154765248.pdf?src-supplier=Digikey; ComponentLink3URL: http://datasheet.octopart.com/22-23-2022-Molex-datasheet-154765248.pdf?src-supplier=Onlinecomponents.com; ComponentLink3Description: http://datasheet.octopart.com/22-23-2022-Molex-datasheet-154765248.pdf?src-supplier=Onlinecomponents.com; ComponentLink4URL: http://datasheet.octopart.com/22-23-2022-Molex-datasheet-154765248.pdf?src-supplier=Mouser; ComponentLink4Description: http://datasheet.octopart.com/22-23-2022-Molex-datasheet-154765248.pdf?src-supplier=Mouser; ComponentLink5URL: http://datasheet.octopart.com/22-23-2022-Molex-datasheet-154765248.pdf?src-supplier=Newark; ComponentLink5Description: http://datasheet.octopart.com/22-23-2022-Molex-datasheet-154765248.pdf?src-supplier=Newark; ComponentLink6URL: https://datasheet.octopart.com/0022232022-Molex-datasheet-137053720.pdf?src-supplier=Sager+Electronics; ComponentLink6Description: https://datasheet.octopart.com/0022232022-Molex-datasheet-137053720.pdf?src-supplier=Sager+Electronics; ComponentLink7URL: https://datasheet.octopart.com/22-23-2022-Molex-datasheet-26579529.pdf?src-supplier=Electro+Sonic; ComponentLink7Description: https://datasheet.octopart.com/22-23-2022-Molex-datasheet-26579529.pdf?src-supplier=Electro+Sonic; ComponentLink8URL: https://datasheet.octopart.com/22-23-2022-Molex-datasheet-154765248.pdf?src-supplier=Master+Electronics; ComponentLink8Description: https://datasheet.octopart.com/22-23-2022-Molex-datasheet-154765248.pdf?src-supplier=Master+Electronics; ComponentLink9URL: http://datasheet.octopart.com/22-23-2022-Molex-datasheet-154765248.pdf?src-supplier=Heilind+Electronics; ComponentLink9Description: http://datasheet.octopart.com/22-23-2022-Molex-datasheet-154765248.pdf?src-supplier=Heilind+Electronics
footprint HEADER 1x2
pins: 1, 2

## Header 1x2, pitch 4.2mm
designator J?, comment Header1x2  (value not drawn)
Mini-Fit Jr. Through Hole PCB Header, Right Angle, 2 Contacts, 2 Rows, 4.2mm Pitch; Manufacturer: Molex; Current Rating: 13A; Number of Contacts: 2; Gender: Male; Insulation Resistance: 1GR; Contact Resistance: 10mR; Max Current Rating: 9A; Max Voltage Rating (AC): 600V; Row Spacing: 0.165inch; Glow Wire Compliant: 16Compliance; Supplier: Mouser; Supplier Part Number: 538-39-30-0020; Manufacturer Part Number: 39-30-0020; RoHS: Yes; Category: Headers and Wire Housings; Stock: 7992; Pricing: 1=0.58, 10=0.453, 50=0.438, 100=0.403, 1000=0.362, 10000=0.358 (USD); Mounting Technology: Through Hole; Contact Material: Brass,Gold; Contact Plating: Tin,Copper; Housing Material: Nylon; Housing Color: Natural; Material: 4261ConductorMaterial; Min Operating Temperature: -40°C; Max Operating Temperature: 105°C; Number of Rows: 2; Termination: Solder; Orientation: Right Angle; Number of Circuits: 2; Series: Mini-Fit® Jr™ 5569; Contact Gender: Male; Packaging: Tray; Package Quantity: 1000; Voltage Rating: 600V; Number of Positions: 2; Fastening Type: Ramp; Contact Type: Male Pin; Voltage Rating (DC): 600V; Length: 5.4mm; Height: 11.4mm; Pitch: 4.2mm; Depth: 19.4mm; RoHS Compliant: Yes; Reach SVHC Compliant: Unknown; Halogen Free: 5696HalogenFree; Lead Free: Lead Free; Flammability Rating: 5813Flammability; ELV: 5681ELVCompliant; ComponentLink1URL: http://www.farnell.com/datasheets/2696096.pdf?src-supplier=Farnell; ComponentLink1Description: http://www.farnell.com/datasheets/2696096.pdf?src-supplier=Farnell; ComponentLink2URL: http://components.arrow.com/part/dataview/4710430S3505314N3303?src-supplier=Arrow+Electronics; ComponentLink2Description: http://components.arrow.com/part/dataview/4710430S3505314N3303?src-supplier=Arrow+Electronics; ComponentLink3URL: https://datasheet.octopart.com/39-30-0020-Molex-datasheet-101582397.pdf?src-supplier=Newark; ComponentLink3Description: https://datasheet.octopart.com/39-30-0020-Molex-datasheet-101582397.pdf?src-supplier=Newark; ComponentLink4URL: https://datasheet.octopart.com/39-30-0020-Molex-datasheet-8451564.pdf?src-supplier=Farnell; ComponentLink4Description: https://datasheet.octopart.com/39-30-0020-Molex-datasheet-8451564.pdf?src-supplier=Farnell; ComponentLink5URL: http://www.farnell.com/datasheets/2696096.pdf?src-supplier=Element14; ComponentLink5Description: http://www.farnell.com/datasheets/2696096.pdf?src-supplier=Element14; ComponentLink6URL: https://datasheet.octopart.com/39-30-0020-Molex-datasheet-154749318.pdf?src-supplier=Master+Electronics; ComponentLink6Description: https://datasheet.octopart.com/39-30-0020-Molex-datasheet-154749318.pdf?src-supplier=Master+Electronics; Supplier 1: Mouser; Supplier Part Number 1: 538-39-30-0020
footprint CONN_5569-02A_MOL
pins: 1, 2

## Header 1x3
designator J?
footprint HEADER 1x3
pins: 1, 2, 3